# EAGLE library part AD8403-DIP28 (library mylib2)
AD8403 with 28PIN DIP化基板
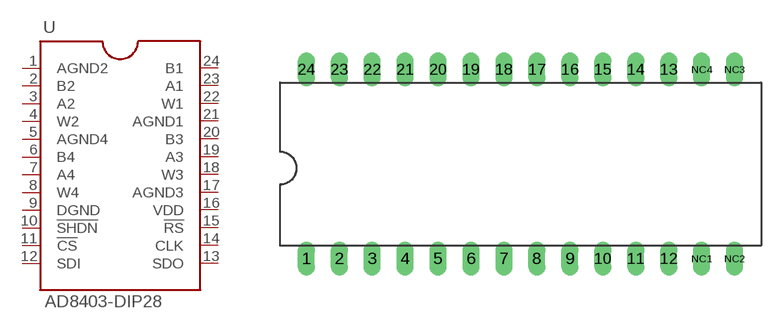
[diagram p13: symbol with the pads of AD8403-DIP28; footprint AD8403-DIP28]

Designator prefix -

## AD8403-DIP28  [AD8403-DIP28]
1  AGND2  pas
2  B2  pas
3  A2  pas
4  W2  pas
5  AGND4  pas
6  B4  pas
7  A4  pas
8  W4  pas
9  DGND  pas
10  !SHDN  pas
11  !CS  pas
12  SDI  pas
13  SDO  pas
14  CLK  pas
15  !RS  pas
16  VDD  pas
17  AGND3  pas
18  W3  pas
19  A3  pas
20  B3  pas
21  AGND1  pas
22  W1  pas
23  A1  pas
24  B1  pas

## Footprint AD8403-DIP28 (pad centres in mm)
drill 0.813 long: 1 -15.24,-5.715; 2 -12.7,-5.715; 3 -10.16,-5.715; 4 -7.62,-5.715; 5 -5.08,-5.715; 6 -2.54,-5.715; 7 0,-5.715; 8 2.54,-5.715; 9 5.08,-5.715; 10 7.62,-5.715; 11 10.16,-5.715; 12 12.7,-5.715; 13 12.7,8.89; 14 10.16,8.89; 15 7.62,8.89; 16 5.08,8.89; 17 2.54,8.89; 18 0,8.89; 19 -2.54,8.89; 20 -5.08,8.89; 21 -7.62,8.89; 22 -10.16,8.89; 23 -12.7,8.89; 24 -15.24,8.89; NC1 15.24,-5.715; NC2 17.78,-5.715; NC3 17.78,8.89; NC4 15.24,8.89